# Altium footprint library PEI_PCB_1.1.PcbLib: 310 footprints (part 10 of 20)
Each footprint in its own frame and in the unit in brackets; x right, y up, seen from the top. Pads: shape width x height; smd on the part's side, far side on the other; paste and mask are expansions set on the pad; w line width, h text height; cw(c..) or ccw(c..) is an arc to the next point about the centre after c.
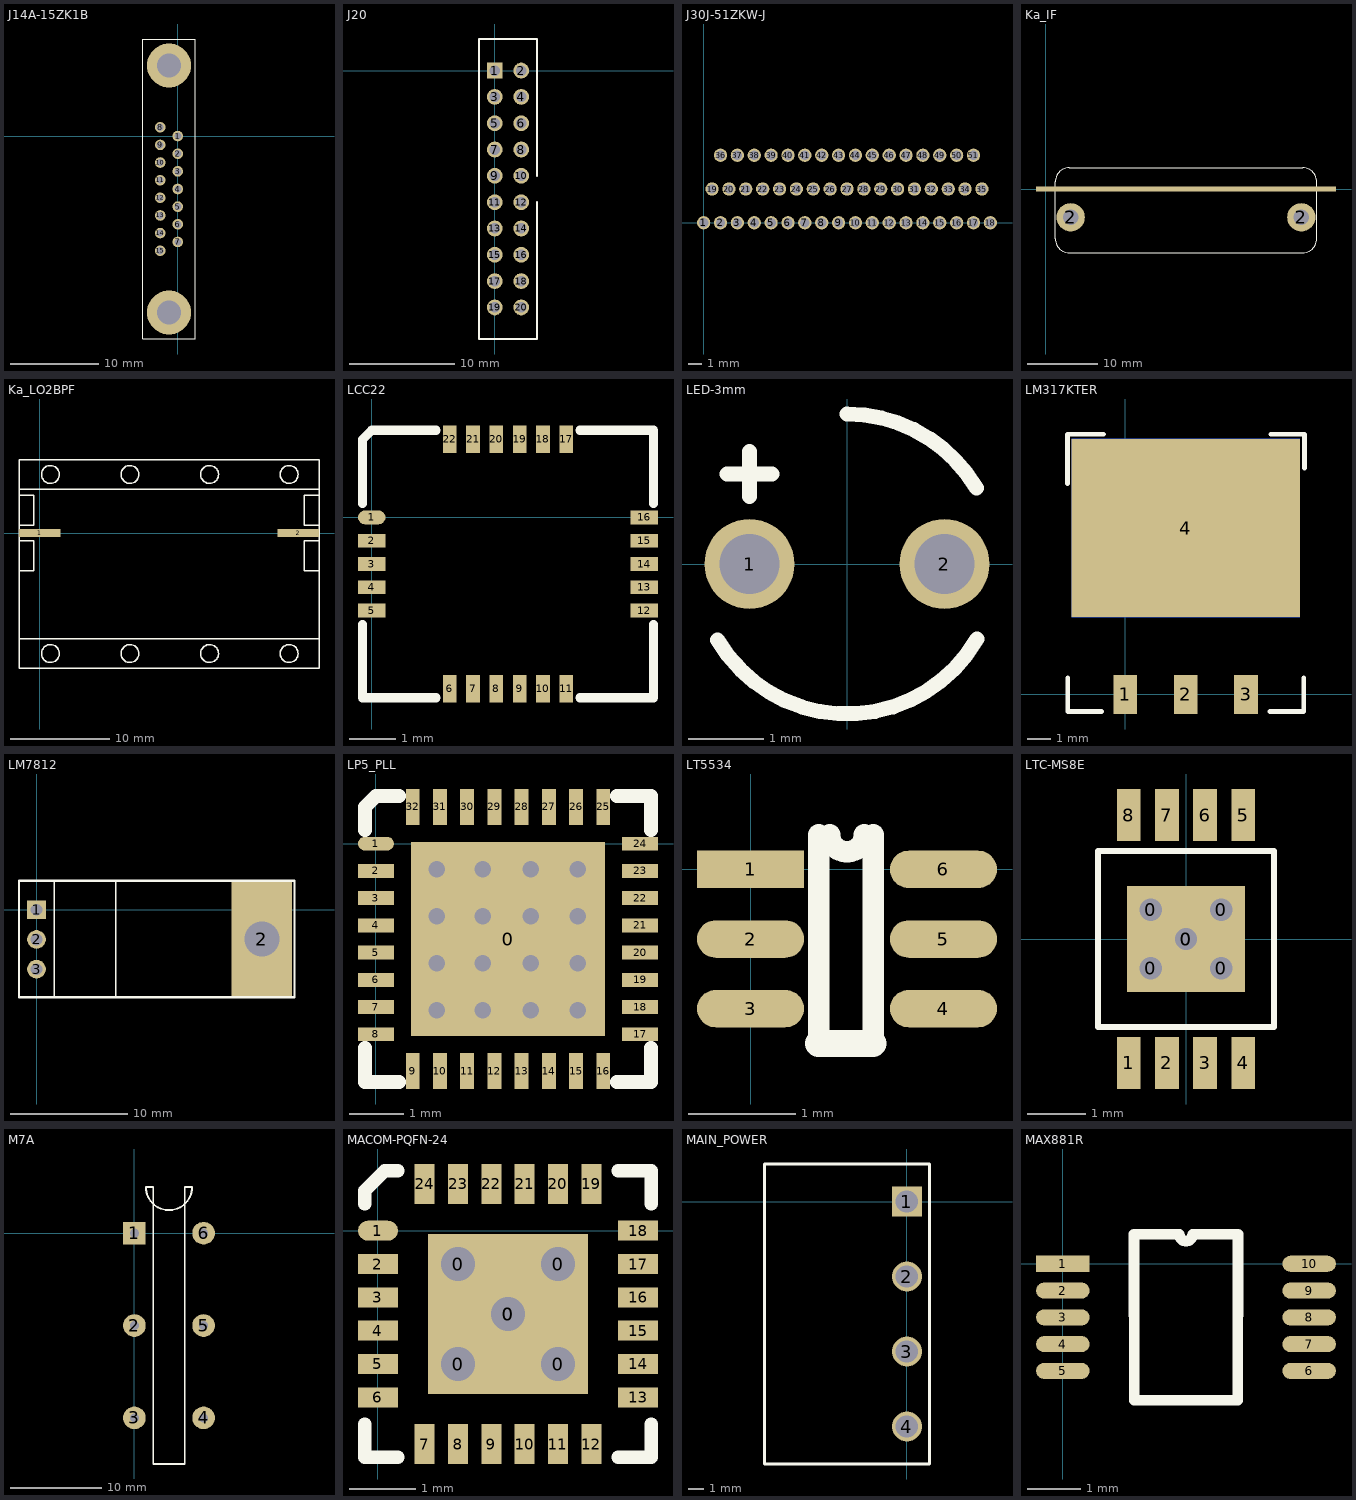
[diagram p9: the footprints below, top view; thin cyan lines are the x and y axes]

## J14A-15ZK1B [mm]
pads (17):
  round 1.2 hole 0.8: 1(0,0) 2(0,-2) 3(0,-4) 4(0,-6) 5(0,-8) 6(0,-10) 7(0,-12) 8(-2,1) 9(-2,-1) 10(-2,-3) 11(-2,-5) 12(-2,-7) 13(-2,-9) 14(-2,-11) 15(-2,-13)
  round 5 hole 2.7: ""(-1,-20) ""(-1,8)
TopOverlay:
  lines w0.127: -4,-23 -4,11 2,11 2,-23 -4,-23

## J20 [mm]
pads (20):
  rect 1.5x1.5 hole 1: 1(0,0)
  round 1.5 hole 1: 2(2.5,0) 3(0,-2.5) 4(2.5,-2.5) 5(0,-5) 6(2.5,-5) 7(0,-7.5) 8(2.5,-7.5) 9(0,-10) 10(2.5,-10) 11(0,-12.5) 12(2.5,-12.5) 13(0,-15) 14(2.5,-15) 15(0,-17.5) 16(2.5,-17.5) 17(0,-20) 18(2.5,-20) 19(0,-22.5) 20(2.5,-22.5)
TopOverlay:
  lines w0.2: 4,-12.5 4,-25.5 -1.5,-25.5 -1.5,3 4,3 4,-10

## J30J-51ZKW-J [mm]
pads (51):
  round 1 hole 0.7: 1(0,0) 2(1.27,0) 3(2.54,0) 4(3.81,0) 5(5.08,0) 6(6.35,0) 7(7.62,0) 8(8.89,0) 9(10.16,0) 10(11.43,0) 11(12.7,0) 12(13.97,0) 13(15.24,0) 14(16.51,0) 15(17.78,0) 16(19.05,0) 17(20.32,0) 18(21.59,0) 19(0.635,2.54) 20(1.905,2.54) 21(3.175,2.54) 22(4.445,2.54) 23(5.715,2.54) 24(6.985,2.54) 25(8.255,2.54) 26(9.525,2.54) 27(10.795,2.54) 28(12.065,2.54) 29(13.335,2.54) 30(14.605,2.54) 31(15.875,2.54) 32(17.145,2.54) 33(18.415,2.54) 34(19.685,2.54) 35(20.955,2.54) 36(1.27,5.08) 37(2.54,5.08) 38(3.81,5.08) 39(5.08,5.08) 40(6.35,5.08) 41(7.62,5.08) 42(8.89,5.08) 43(10.16,5.08) 44(11.43,5.08) 45(12.7,5.08) 46(13.97,5.08) 47(15.24,5.08) 48(16.51,5.08) 49(17.78,5.08) 50(19.05,5.08) 51(20.32,5.08)

## Ka_IF [mm]
pads (5):
  rect 2.7x0.762 smd: 1(0,0) 3(39.7,0)
  round 4 hole 2.2: 2(3.55,-4) 2(36.15,-4)
  rect 37x0.762 smd: 2(19.85,0)
TopOverlay:
  lines w0.127: 1.35,-7 ccw(c3.35,-7) 3.35,-9 36.35,-9 ccw(c36.35,-7) 38.35,-7 38.35,1 ccw(c36.35,1) 36.35,3 3.35,3 ccw(c3.35,1) 1.35,1 1.35,-7

## Ka_LO2BPF [mm]
pads (2):
  rect 4.16x0.78 smd: 1(0,0) 2(26,0)
TopOverlay:
  circle w0.127: c25.08,-12.11 r0.9
  circle w0.127: c17.08,-12.11 r0.9
  circle w0.127: c9.08,-12.11 r0.9
  circle w0.127: c1.08,-12.11 r0.9
  circle w0.127: c25.08,5.89 r0.9
  circle w0.127: c17.08,5.89 r0.9
  circle w0.127: c9.08,5.89 r0.9
  circle w0.127: c1.08,5.89 r0.9
  lines w0.127: -2.08,-10.61 28.08,-10.61 ; -2.08,-3.79 -0.58,-3.79 -0.58,-0.79 -2.08,-0.79 ; -2.08,0.79 -0.58,0.79 -0.58,3.79 -2.08,3.79 ; -2.08,4.39 28.08,4.39 ; 28.08,-3.79 26.58,-3.79 26.58,-0.79 28.08,-0.79 ; 28.08,0.79 26.58,0.79 26.58,3.79 28.08,3.79 ; -2.08,-13.61 -2.08,7.39 28.08,7.39 28.08,-13.61 -2.08,-13.61

## LCC22 [mm]
pads (22):
  oval 0.6x0.3 smd: 1(0,0)
  rect 0.6x0.3 smd: 2(0,-0.508) 3(0,-1.016) 4(0,-1.524) 5(0,-2.032) 12(5.94,-2.032) 13(5.94,-1.524) 14(5.94,-1.016) 15(5.94,-0.508) 16(5.94,0)
  rect 0.3x0.6 smd: 6(1.7,-3.732) 7(2.208,-3.732) 8(2.716,-3.732) 9(3.224,-3.732) 10(3.732,-3.732) 11(4.24,-3.732) 17(4.24,1.7) 18(3.732,1.7) 19(3.224,1.7) 20(2.716,1.7) 21(2.208,1.7) 22(1.7,1.7)
TopOverlay:
  lines w0.2: -0.2,-2.332 -0.2,-3.932 1.4,-3.932 ; -0.2,0.3 -0.2,1.7 0,1.9 1.4,1.9 ; 4.54,-3.932 6.14,-3.932 6.14,-2.332 ; 4.54,1.9 6.14,1.9 6.14,0.3

## LED-3mm [mm]
pads (2):
  round 1.2 hole 0.8: 1(-1.3,0) 2(1.3,0)
TopOverlay:
  lines w0.2: -1.724,-1.014 ccw(c0,0) 1.731,-1.002 ; -1.6,1.2 -1,1.2 ; -1.3,0.9 -1.3,1.5 ; 0,2 cw(c0,0) 1.724,1.014

## LM317KTER [mm]
pads (5):
  rect 1x1.65 smd: 1(0,0) 2(2.54,0) 3(5.08,0)
  rect 9.6x7.5 smd: 4(2.54,7)
  rect 9.6x7.5 smd far side: ""(2.54,7)
TopOverlay:
  lines w0.2: -2.438,8.865 -2.438,10.947 -0.914,10.947 ; -2.425,0.7 -2.425,-0.725 -1,-0.725 ; 6.08,-0.725 7.505,-0.725 7.505,0.7 ; 6.119,10.95 7.544,10.95 7.544,9.525

## LM7812 [mm]
pads (4):
  rect 1.6x1.6 hole 1: 1(0,0)
  round 1.6 hole 1: 2(0,-2.54) 3(0,-5.08)
  rect 5.2x9.8 on Top hole 3: 2(19.3,-2.5)
TopOverlay:
  lines w0.127: 1.5,-7.5 1.5,2.5 ; 6.8,-7.5 6.8,2.5
  lines w0.2: -1.5,-7.5 -1.5,2.5 22.1,2.5 22.1,-7.5 -1.5,-7.5
TopSolder:
  lines w0.127: 7,-7.5 7,2.5 22,2.5 22,-7.5 7,-7.5

## LP5_PLL [mil]
pads (33):
  rect 140x140 smd: 0(95.5,-68.95)
  oval 26x10 smd: 1(0,0)
  rect 26x10 smd: 2(0,-19.7) 3(0,-39.4) 4(0,-59.1) 5(0,-78.8) 6(0,-98.5) 7(0,-118.2) 8(0,-137.9) 17(191,-137.9) 18(191,-118.2) 19(191,-98.5) 20(191,-78.8) 21(191,-59.1) 22(191,-39.4) 23(191,-19.7) 24(191,0)
  rect 10x26 smd: 9(26.55,-164.45) 10(46.25,-164.45) 11(65.95,-164.45) 12(85.65,-164.45) 13(105.35,-164.45) 14(125.05,-164.45) 15(144.75,-164.45) 16(164.45,-164.45) 25(164.45,26.55) 26(144.75,26.55) 27(125.05,26.55) 28(105.35,26.55) 29(85.65,26.55) 30(65.95,26.55) 31(46.25,26.55) 32(26.55,26.55)
via 44.1,-18.4 diameter 15 hole 12
via 112.1,-18.4 diameter 15 hole 12
via 146.1,-18.4 diameter 15 hole 12
via 146.1,-52.4 diameter 15 hole 12
via 146.1,-86.4 diameter 15 hole 12
via 146.1,-120.4 diameter 15 hole 12
via 112.1,-52.4 diameter 15 hole 12
via 112.1,-86.4 diameter 15 hole 12
via 112.1,-120.4 diameter 15 hole 12
via 77.1,-52.4 diameter 15 hole 12
via 77.1,-86.4 diameter 15 hole 12
via 77.1,-120.4 diameter 15 hole 12
via 44.1,-52.4 diameter 15 hole 12
via 44.1,-86.4 diameter 15 hole 12
via 44.1,-120.4 diameter 15 hole 12
via 77.1,-18.4 diameter 15 hole 12
TopOverlay:
  lines w10: -8,-147.9 -8,-172.45 16.55,-172.45 ; -8,10 -8,26.55 0,34.55 16.55,34.55 ; 174.45,-172.45 199,-172.45 199,-147.9 ; 174.45,34.55 199,34.55 199,10

## LT5534 [mm]
pads (6):
  rect 1x0.35 smd: 1(0,0)
  oval 1x0.35 smd: 2(0,-0.65) 3(0,-1.3) 4(1.8,-1.3) 5(1.8,-0.65) 6(1.8,0)
TopOverlay:
  lines w0.2: 0.635,-1.625 0.635,0.325 ; 0.737,0.325 ccw(c0.9,0.325) 1.063,0.325 ; 1.143,-1.625 1.143,0.325
  lines w0.254: 0.635,-1.625 1.143,-1.625

## LTC-MS8E [mil]
pads (14):
  round 24 hole 15: 0(-23.62,-19.68) 0(-23.62,19.68) 0(0,0) 0(23.62,-19.68) 0(23.62,19.68)
  rect 78.74x70.87 smd: 0(0,0)
  rect 16x35 smd: 1(-38.39,-83) 2(-12.8,-83) 3(12.8,-83) 4(38.39,-83) 5(38.39,83) 6(12.8,83) 7(-12.8,83) 8(-38.39,83)
TopOverlay:
  lines w3.94: -59.06,-59.06 59.06,-59.06 59.06,59.06 -59.06,59.06 -59.06,-59.06

## M7A [mm]
pads (6):
  rect 2.5x2.5 hole 1: 1(0,0)
  round 2.5 hole 1: 2(0,-10.16) 3(0,-20.32) 4(7.62,-20.32) 5(7.62,-10.16) 6(7.62,0)
TopOverlay:
  lines w0.2: 1.27,5.08 ccw(c3.81,5.08) 6.35,5.08 5.535,5.08 5.535,-25.4 2.085,-25.4 2.085,5.08 1.27,5.08

## MACOM-PQFN-24 [mm]
pads (30):
  round 0.762 hole 0.508: 0(1.2,-2) 0(1.2,-0.5) 0(1.95,-1.25) 0(2.7,-2) 0(2.7,-0.5)
  rect 2.4x2.4 smd: 0(1.95,-1.25)
  oval 0.6x0.3 smd: 1(0,0)
  rect 0.6x0.3 smd: 2(0,-0.5) 3(0,-1) 4(0,-1.5) 5(0,-2) 6(0,-2.5) 13(3.9,-2.5) 14(3.9,-2) 15(3.9,-1.5) 16(3.9,-1) 17(3.9,-0.5) 18(3.9,0)
  rect 0.3x0.6 smd: 7(0.7,-3.2) 8(1.2,-3.2) 9(1.7,-3.2) 10(2.2,-3.2) 11(2.7,-3.2) 12(3.2,-3.2) 19(3.2,0.7) 20(2.7,0.7) 21(2.2,0.7) 22(1.7,0.7) 23(1.2,0.7) 24(0.7,0.7)
TopOverlay:
  lines w0.2: -0.2,-2.9 -0.2,-3.4 0.3,-3.4 ; -0.2,0.4 -0.2,0.6 0.1,0.9 0.3,0.9 ; 3.6,-3.4 4.1,-3.4 4.1,-2.9 ; 3.6,0.9 4.1,0.9 4.1,0.4

## MAIN_POWER [mm]
pads (4):
  rect 2x2 hole 1.5: 1(0,0)
  round 2 hole 1.5: 2(0,-5) 3(0,-10) 4(0,-15)
TopOverlay:
  lines w0.2: -9.5,-17.5 -9.5,2.5 1.5,2.5 1.5,-17.5 -9.5,-17.5

## MAX881R [mm]
pads (10):
  rect 1x0.3 smd: 1(0,0)
  oval 1x0.3 smd: 2(0,-0.5) 3(0,-1) 4(0,-1.5) 5(0,-2) 6(4.6,-2) 7(4.6,-1.5) 8(4.6,-1) 9(4.6,-0.5) 10(4.6,0)
TopOverlay:
  lines w0.2: 1.33,0.55 1.335,-2.55 3.265,-2.55 3.27,0.55 ; 1.335,0.55 2.175,0.55 ccw(c2.3,0.55) 2.425,0.55 3.265,0.55